# EAGLE library part MICROCHIP_MCP23008 (library Nwazet.Go)
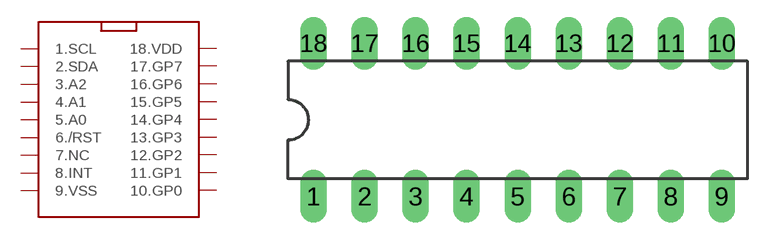
[diagram p30: symbol with the pads of DIL18; footprint DIL18]

Designator prefix -

## MICROCHIP_MCP23008  [DIL18]
1  1.SCL
2  2.SDA
3  3.A2
4  4.A1
5  5.A0
6  6./RST
7  7.NC  nc
8  8.INT  out
9  9.VSS  pas
10  10.GP0
11  11.GP1
12  12.GP2
13  13.GP3
14  14.GP4
15  15.GP5
16  16.GP6
17  17.GP7
18  18.VDD  pwr

## Footprint DIL18 (pad centres in mm)
Dual In Line Package
drill 0.813 long: 1 -10.16,-3.81; 2 -7.62,-3.81; 3 -5.08,-3.81; 4 -2.54,-3.81; 5 0,-3.81; 6 2.54,-3.81; 7 5.08,-3.81; 8 7.62,-3.81; 9 10.16,-3.81; 10 10.16,3.81; 11 7.62,3.81; 12 5.08,3.81; 13 2.54,3.81; 14 0,3.81; 15 -2.54,3.81; 16 -5.08,3.81; 17 -7.62,3.81; 18 -10.16,3.81